# Altium schematic symbol library Switches.SchLib: 7 symbols
Pins are listed as number, name and electrical type; pins without a type are passive.

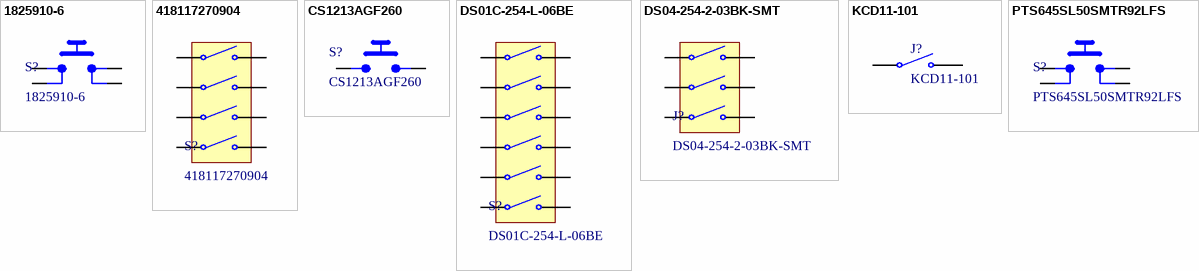
[diagram p0: symbols 1825910-6 to PTS645SL50SMTR92LFS]

## 1825910-6
designator S?
SWITCH TACTILE SPST-NO 0.05A 24V; Manufacturer: TE Connectivity Alcoswitch; Circuit Configuration: 1X1; Contact Current(DC)-Max: 50mA; Contact DC Max Rating R Load: .05A@24VDC; Number of Switches: 1; Operating Force-Max: 2.06N; Switch Action: MOMENTARY; Switch Function: SPST; Switch Type: Keypad; Body Breadth: 5.99mm; Body Height: 3.61mm; Supplier: Digikey; Supplier Part Number: 450-1650-ND; Manufacturer Part Number: 1825910-6; RoHS: Yes; Category: Pushbutton Switches; Stock: 56475; Pricing: 1=0.13, 10=0.118, 25=0.1112, 100=0.1001, 250=0.093, 750=0.08485, 1500=0.08009, 3000=0.07565, 5250=0.07234 (USD); Mounting Technology: Through Hole; Min Operating Temperature: -35°C; Max Operating Temperature: 85°C; Contact Voltage(DC)-Max: 24V; Termination: Solder; Body Length or Diameter: 5.99mm; Reach SVHC Compliant: Yes; RoHS Compliant: Yes; ComponentLink1URL: https://datasheet.ciiva.com:443/pdfs/VipMasterIC/IC/TYEL/TYEL-S-A0008869674/TYEL-S-A0008850909-1.pdf?src-supplier=IHS+Markit; ComponentLink1Description: https://datasheet.ciiva.com:443/pdfs/VipMasterIC/IC/TYEL/TYEL-S-A0008869674/TYEL-S-A0008850909-1.pdf?src-supplier=IHS+Markit; ComponentLink2URL: https://datasheet.ciiva.com/15184/getdatasheetpartid-395915-15184509.pdf?src-supplier=Verical; ComponentLink2Description: https://datasheet.ciiva.com/15184/getdatasheetpartid-395915-15184509.pdf?src-supplier=Verical
footprint TACTILE_SWITCH_PTH_6x6MM_5MM_H
pins: 1, 2, 3, 4

## 418117270904
designator S?
SWITCH SLIDE DIP SPST 0.025A 24V; Manufacturer: Wurth Electronics; Actuator Material: Polyamide; End Contact Plating: Gold; Actuator Color: White; Body Color: Black; End Contact Material: Copper Alloy; Contact Current(DC)-Max: 25mA; Contact DC Max Rating R Load: .025A@24VDC; Contact Function: Off-On; Contact Resistance: 0.1mR; Dielectric Withstand Volts: 500VACV; Electrical Life: 5000Cycles; Insulation Resistance: 100MR; Number of Positions: 4; PCB Hole Count: 8; Solderability: WAVE; Switch Action: LATCHED; Actuator Length: 0.043inch; Body Breadth: 9.6inch; Body Height: 5.2mm; Body Length or Diameter: 11.16mm; Supplier: Digikey; Supplier Part Number: 732-3834-5-ND; Manufacturer Part Number: 418117270904; RoHS: Yes; Category: DIP Switches; Stock: 1693; Pricing: 1=1.22, 10=1.186, 47=1.08404, 94=0.98, 188=0.87702 (USD); Mounting Technology: Through Hole; Contact Material: Copper Alloy; Center Contact Plating: Gold; Housing Material: Polybutylene; Insulation Material: Polyamide; Terminal Finish: Tin; Min Operating Temperature: -40°C; Max Operating Temperature: 85°C; JESD-609 Code: e3; Actuator Type: SLIDE; Contact Voltage(DC)-Max: 24V; Number of Switch Sections: 4; Packaging: Rail/Tube; Switch Function: SPST; Switch Type: Slide Dip; Termination: Solder; Terminal Length: 0.146inch; Reach SVHC Compliant: Yes; RoHS Compliant: Yes; ComponentLink1URL: https://datasheet.ciiva.com:443/pdfs/VipMasterIC/IC/MIDC/MIDC-S-A0004022663/MIDC-S-A0004709269-1.pdf?src-supplier=IHS+Markit; ComponentLink1Description: https://datasheet.ciiva.com:443/pdfs/VipMasterIC/IC/MIDC/MIDC-S-A0004022663/MIDC-S-A0004709269-1.pdf?src-supplier=IHS+Markit; ComponentLink2URL: https://datasheet.ciiva.com/2864/4181172709xx-2864180.pdf?src-supplier=Digikey; ComponentLink2Description: https://datasheet.ciiva.com/2864/4181172709xx-2864180.pdf?src-supplier=Digikey
footprint DIP_SWITCH_PTH_PITCH_2P54MM_4P
pins: 1A COM1, 1B NO1, 2A COM2, 2B NO2, 3A COM3, 3B NO3, 4A COM4, 4B NO4

## CS1213AGF260
designator S?
SWITCH TACTILE SPST-NO 0.05A 50V; Manufacturer: CIT Relay & Switch; Supplier: DigiKey; Supplier Part Number: 2449-CS1213AGF260CT-ND; Manufacturer Part Number: CS1213AGF260; Category: Tactile Switches; Stock: 32750; Pricing: 1=0.39, 10=0.341, 25=0.3184, 100=0.285, 250=0.26408, 500=0.24922, 1000=0.23539 (USD)
footprint TACTILE_SWITCH_SMD_3P9MM_2P9MM
pins: 1, 2

## DS01C-254-L-06BE
designator S?
SWITCH SLIDE DIP SPST 0.025A 24V; Manufacturer: CUI Devices; Supplier: Digikey; Supplier Part Number: 2223-DS01C-254-L-06BE-ND; Manufacturer Part Number: DS01C-254-L-06BE; RoHS: Yes; Category: DIP Switches; Stock: 1386; Pricing: 1=0.7, 10=0.678, 28=0.65143, 112=0.56545, 252=0.51595, 504=0.47946, 1008=0.42996, 2520=0.4039, 5012=0.37524 (USD); ComponentLink1URL: https://www.cuidevices.com/product/resource/digikeypdf/ds01-254.pdf?src-supplier=Digikey; ComponentLink1Description: https://www.cuidevices.com/product/resource/digikeypdf/ds01-254.pdf?src-supplier=Digikey
footprint DIP_SWITCH_PTH_PITCH_2P54MM_6P
pins: 1A COM1, 1B NO1, 2A COM2, 2B NO2, 3A COM3, 3B NO3, 4A COM4, 4B NO4, 5A COM5, 5B NO5, 6A COM6, 6B NO6

## DS04-254-2-03BK-SMT
designator J?
SWITCH SLIDE DIP SPST 0.025A 24V; Manufacturer: Same Sky; Supplier: Digikey; Supplier Part Number: 2223-DS04-254-2-03BK-SMT-ND; Manufacturer Part Number: DS04-254-2-03BK-SMT; RoHS: No; Stock: 1730; Pricing: 1=0.63, 10=0.543, 50=0.4782, 100=0.4516, 250=0.41828, 500=0.3949, 1000=0.37334, 2500=0.34773, 5000=0.33061 (USD); ComponentLink1URL: https://datasheet.octopart.com/DS04-254-2-03BK-SMT-Same-Sky-datasheet-182049629.pdf?src-supplier=Future+Electronics; ComponentLink1Description: https://datasheet.octopart.com/DS04-254-2-03BK-SMT-Same-Sky-datasheet-182049629.pdf?src-supplier=Future+Electronics; ComponentLink2URL: https://www.cuidevices.com/product/resource/digikeypdf/ds04-254-smt.pdf?src-supplier=Digikey; ComponentLink2Description: https://www.cuidevices.com/product/resource/digikeypdf/ds04-254-smt.pdf?src-supplier=Digikey; ComponentLink3URL: https://datasheet.octopart.com/DS04-254-2-03BK-SMT-Same-Sky-datasheet-182880576.pdf?src-supplier=Electro+Sonic; ComponentLink3Description: https://datasheet.octopart.com/DS04-254-2-03BK-SMT-Same-Sky-datasheet-182880576.pdf?src-supplier=Electro+Sonic; ComponentLink4URL: https://datasheet.octopart.com/DS04-254-2-03BK-SMT-CUI-Devices-datasheet-175927280.pdf?src-supplier=Master+Electronics; ComponentLink4Description: https://datasheet.octopart.com/DS04-254-2-03BK-SMT-CUI-Devices-datasheet-175927280.pdf?src-supplier=Master+Electronics; ComponentLink5URL: https://datasheet.octopart.com/DS04-254-2-03BK-SMT-Same-Sky-datasheet-188930658.pdf?src-supplier=TME; ComponentLink5Description: https://datasheet.octopart.com/DS04-254-2-03BK-SMT-Same-Sky-datasheet-188930658.pdf?src-supplier=TME
footprint DIP_SWITCH_SMD_PITCH_2P54MM_3P
pins: 1A COM1, 1B NO1, 2A COM2, 2B NO2, 3A COM3, 3B NO3

## KCD11-101
designator J?
SWITCH ROCKER
footprint KCD11-101
pins: 1, 2

## PTS645SL50SMTR92LFS
designator S?
SWITCH TACTILE SPST-NO 0.05A 12V; Manufacturer: ITT C&K; Manufacturer Series: PTS645; Actuator Type: Pushbutton; Circuit Configuration: 1X1; Contact Current(DC)-Max: 50mA; Contact DC Max Rating R Load: .05A@12VDC; Contact Resistance: 0.1mR; Dielectric Withstand Volts: 250VACV; Electrical Life: 100000Cycles; Insulation Resistance: 100GR; Number of Switches: 1; Operating Force-Max: 1.27N; PCB Hole Count: 4; Switch Action: MOMENTARY-TACTILE; Switch Function: SPST; Switch Type: Keypad; Body Breadth: 6inch; Body Height: 3.45mm; Body Length or Diameter: 6mm; Supplier: Digikey; Supplier Part Number: CKN9088CT-ND; Manufacturer Part Number: PTS645SL50SMTR92LFS; RoHS: Yes; Category: Tactile Switches; Stock: 43959; Pricing: 1=0.35, 10=0.337, 25=0.3172, 100=0.2753, 250=0.24972, 500=0.2323 (USD); Mounting Technology: Surface Mount; Terminal Finish: Silver; Min Operating Temperature: -20°C; Max Operating Temperature: 60°C; JESD-609 Code: e4; Contact Voltage(DC)-Max: 12V; Packaging: Tape and Reel; Termination: Solder; Terminal Length: 0.138inch; Reach SVHC Compliant: Yes; RoHS Compliant: Yes; ComponentLink1URL: https://datasheet.ciiva.com:443/pdfs/VipMasterIC/IC/CKCI/CKCI-S-A0001796527/CKCI-S-A0001796842-1.pdf?src-supplier=IHS+Markit; ComponentLink1Description: https://datasheet.ciiva.com:443/pdfs/VipMasterIC/IC/CKCI/CKCI-S-A0001796527/CKCI-S-A0001796842-1.pdf?src-supplier=IHS+Markit; ComponentLink2URL: https://datasheet.ciiva.com/26927/getdatasheetpartid-760859-26927133.pdf?src-supplier=Verical; ComponentLink2Description: https://datasheet.ciiva.com/26927/getdatasheetpartid-760859-26927133.pdf?src-supplier=Verical; ComponentLink3URL: https://datasheet.ciiva.com/14920/pts645-14920742.pdf?src-supplier=Digikey; ComponentLink3Description: https://datasheet.ciiva.com/14920/pts645-14920742.pdf?src-supplier=Digikey; ComponentLink4URL: https://datasheet.ciiva.com/14920/pts645-14920743.pdf?src-supplier=Digikey; ComponentLink4Description: https://datasheet.ciiva.com/14920/pts645-14920743.pdf?src-supplier=Digikey; ComponentLink5URL: https://datasheet.ciiva.com/14920/pts645-14920744.pdf?src-supplier=Digikey; ComponentLink5Description: https://datasheet.ciiva.com/14920/pts645-14920744.pdf?src-supplier=Digikey; ComponentLink6URL: https://datasheet.ciiva.com/46429/1839862-46429337.pdf?src-supplier=Element14; ComponentLink6Description: https://datasheet.ciiva.com/46429/1839862-46429337.pdf?src-supplier=Element14; ComponentLink7URL: https://datasheet.ciiva.com/46429/1839862-46429338.pdf?src-supplier=Element14; ComponentLink7Description: https://datasheet.ciiva.com/46429/1839862-46429338.pdf?src-supplier=Element14
footprint TACTILE_SWITCH_SMD_6x6MM_5MM_H
pins: 1, 2, 3, 4